# EAGLE library part 428521320811 (library EAGLE-TACT_SWITCHES-rev16e)
10x10 mm washable SMD arrow type WS-ROSV,10 position <http://katalog.we-online.de/media/images/v2/Family_WS-ROSV_SMD_Rotary_Switch_4285213208xx.jpg> Details see: http://katalog.we-online.de/en/em/ROSV_10X10_WASHABLE_SMD_ARROW_TYPE 2015 (C) Würth Elektronik
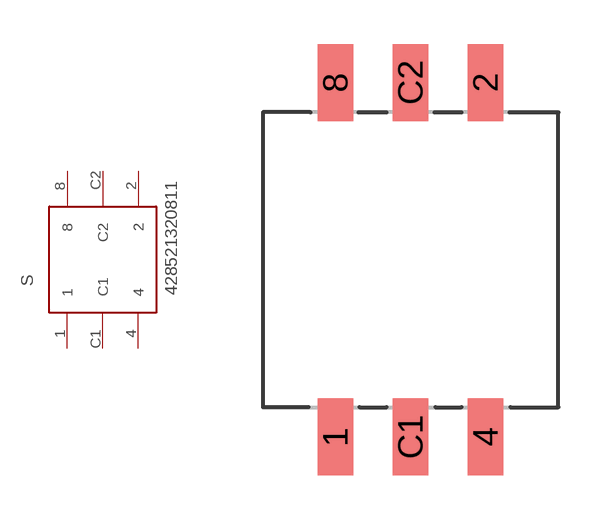
[diagram p21: symbol with the pads of 428521320811; footprint 428521320811]

Designator prefix S

## 428521320811  [428521320811]
1  1  pas
2  2  pas
4  4  pas
8  8  pas
C1  C1  pas
C2  C2  pas

## Footprint 428521320811 (pad centres in mm)
WS-RAS-10x10 mm washable SMD Rotary Switch,6 pins,10 position
smd 1.2 x 2.6: 1 -2.54,-6; 2 2.54,6; 4 2.54,-6; 8 -2.54,6; C1 0,-6; C2 0,6